# Altium schematic symbol library JMP1.SchLib: 1 symbol
Pins are listed as number, name and electrical type; pins without a type are passive.

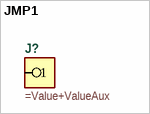
[diagram p0: symbol JMP1]

## JMP1
designator J?
=Description
pins: 1